# Altium integrated library 1140084168.IntLib: 1 symbol
Pins are listed as number, name and electrical type; pins without a type are passive.

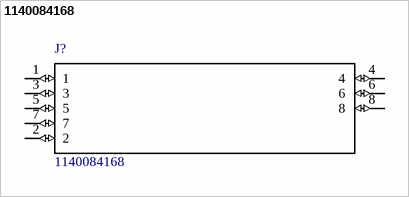
[diagram p0: symbol 1140084168]

## 1140084168
designator J?
/ Memory Card Connector, Microsd, 8 Position, Full Reel /; MF: Amphenol ICC; MP: 114-00841-68; Availability: Unavailable; Price: None; Package: None; SnapEDA_Link: https://www.snapeda.com/parts/114-00841-68/Amphenol%20ICC/view-part/?ref=snap; Value: *
footprint *1140084168
pins: 1 (io), 2 (io), 3 (io), 4 (io), 5 (io), 6 (io), 7 (io), 8 (io)